# Altium schematic symbol library IDETEC.SchLib: 205 symbols (part 2 of 3)
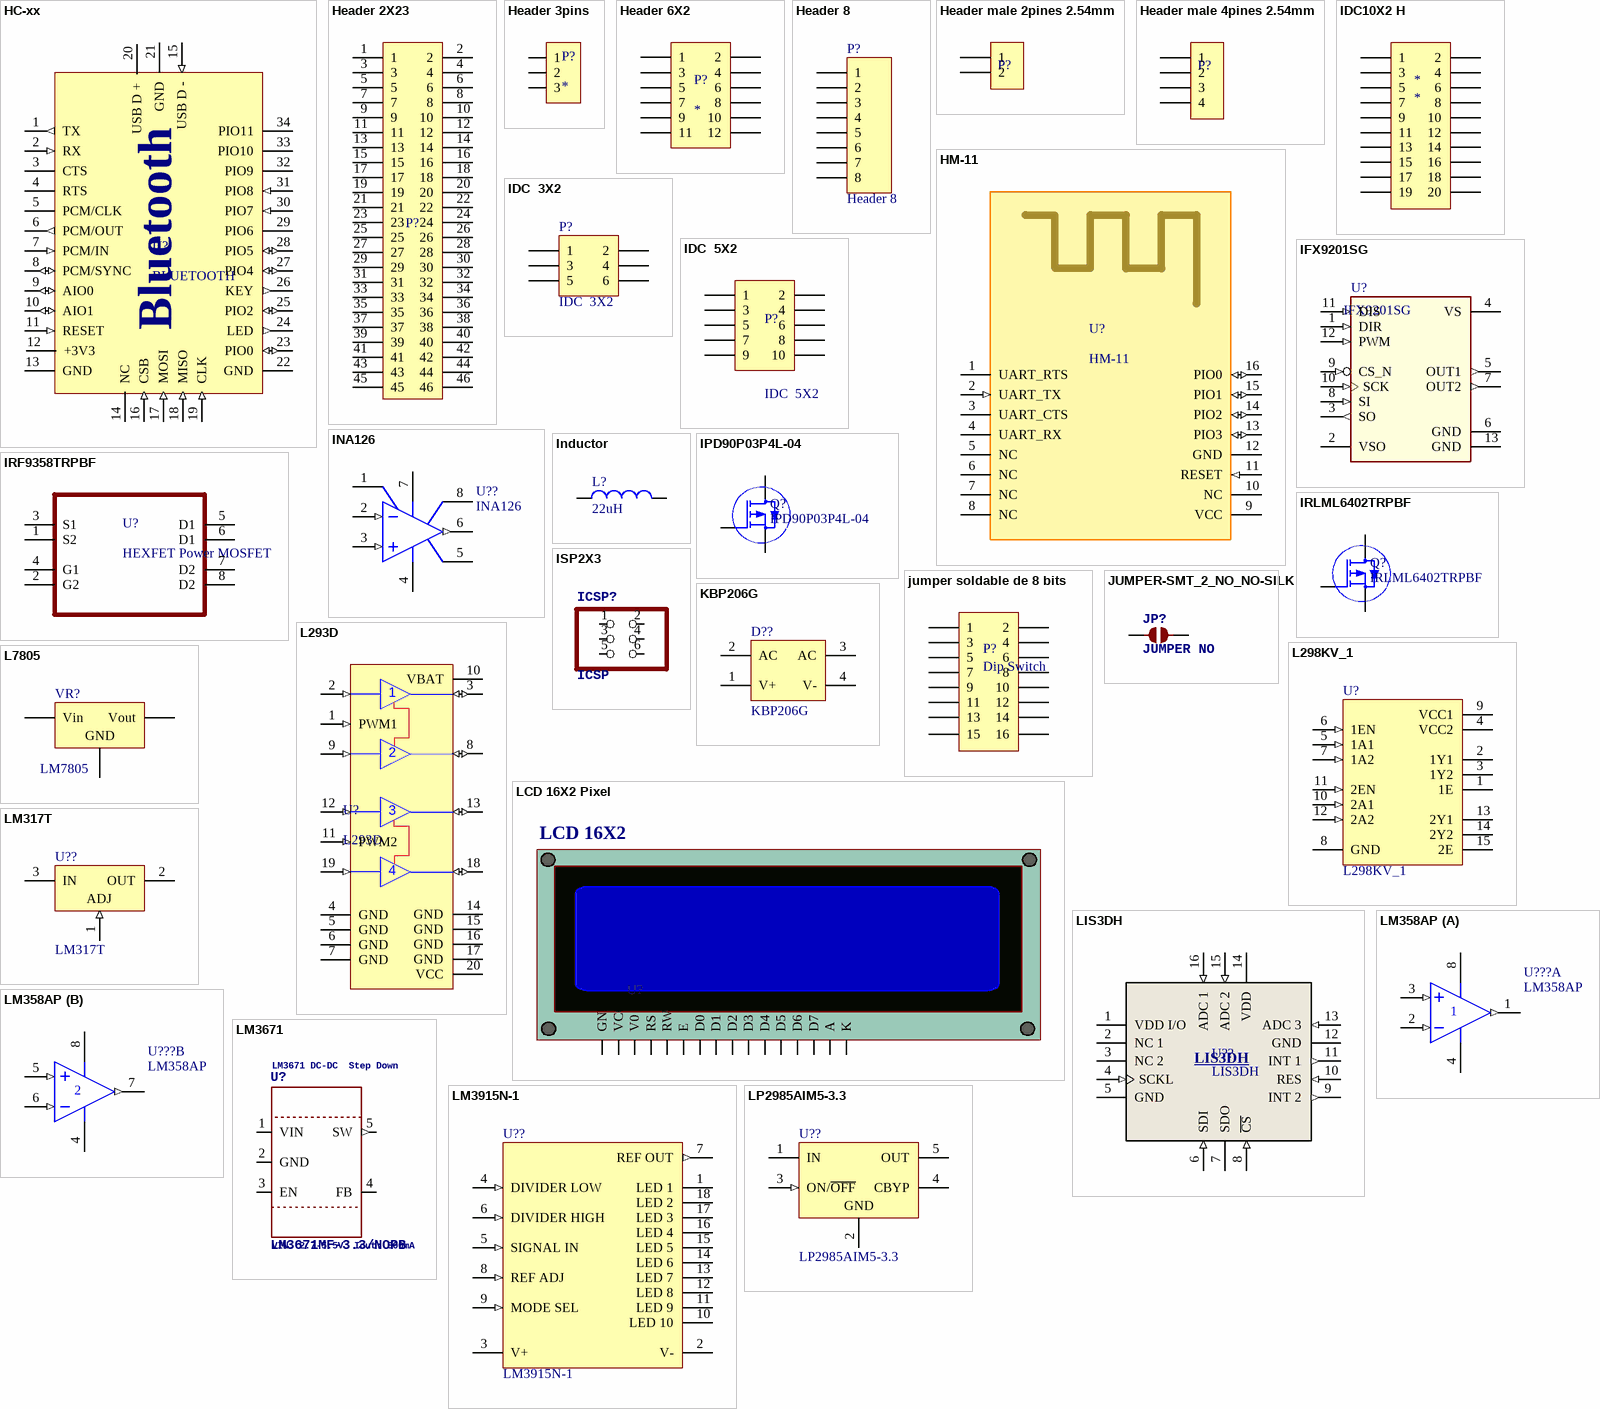
[diagram p8: symbols HC-xx to LP2985AIM5-3.3]

## Inductor
designator L?, comment 22uH
Inductor; Code_IEC: 1005; Value: PM3700-10-RC; Published: 8-Jun-2000; LatestRevisionDate: 29-May-2009; LatestRevisionNote: IPC-7351 Footprint Added.; PackageReference: 0402-A; Publisher: Altium Limited; PackageDescription: Chip Inductor; Code_JEITA: 0402
footprint CDRH5D28NP
simulation model INDUCTOR (Inductor)
signal-integrity model Inductor
pins: 1, 2

## IPD90P03P4L-04
designator Q?
P-Channel MOSFET; Published: 8-Jun-2000; LatestRevisionDate: 17-Jul-2002; LatestRevisionNote: Re-released for DXP Platform.; PackageVersion: 1995/1996; PackageReference: E3; Publisher: Altium Limited
footprint TO252 (D-PAK, 3-Pads, Body 6.2x6.7mm (max), IPC Medium Density)
pins: 1 G, 2 D, 3 S

## IRF9358TRPBF
designator U?, comment HEXFET Power MOSFET
MF: Infineon; MP: IRF9358TRPBF; Price: 0.58 USD; Availability: Good; Package: SOIC-8 Infineon
footprint SOIC127P600X157-8N (SOIC, 8-Leads, Body 5,0x4,0mm (max), Pitch 1,27mm, IPC Medium Density)
pins: 1 S2, 2 G2, 3 S1, 4 G1, 5 D1, 6 D1, 7 D2, 8 D2

## IRLML6402TRPBF
designator Q?
P-Channel MOSFET; Published: 8-Jun-2000; LatestRevisionDate: 17-Jul-2002; LatestRevisionNote: Re-released for DXP Platform.; PackageVersion: 1995/1996; PackageReference: E3; Publisher: Altium Limited
footprint SuperSOT-3 (SOT23, 3-Leads, Body 2,98x2,52mm, Pitch 0,95mm, IPC Medium Density)
pins: 1 S, 2 G, 3 D

## ISP2X3
designator ICSP?, comment ICSP
3x2 M V h 8,5 mm p2,54
footprint 2X03
footprint ISP2X03 (2X03)
pins: 1, 2, 3, 4, 5, 6

## jumper soldable de 8 bits
designator P?, comment Dip Switch
footprint Jumper 8Bits (jumpersoldable)
pins: 1, 2, 3, 4, 5, 6, 7, 8, 9, 10, 11, 12, 13, 14, 15, 16

## JUMPER-SMT_2_NO_NO-SILK
designator JP?, comment JUMPER NO
Normally open jumper    This jumper has two pads in close proximity to each other. Apply solder to close the connection.   Round pads are easier to solder for beginners, but are a lot larger.   SparkFun Product that uses the round pads:  SparkFun EL Sequencer
footprint SMT-JUMPER_2_NO_NO-SILK
pins: 1, 2

## KBP206G
designator D??
Published: 24-Mar-1999; LatestRevisionDate: 17-Jul-2002; LatestRevisionNote: Re-released for DXP Platform.; PackageReference: D-46_6A; Publisher: Altium Limited; Supplier 1: Digi-Key; Supplier Part Number 1: KBP206GGS-ND
simulation model BRIDGE (Spice Subcircuit)
footprint KBP206G (DIODE BRIDGE 2A 600V 1PH KBP)
pins: 1 V+, 2 AC, 3 AC, 4 V-

## L293D
designator U?
Quadruple Half-H Driver
footprint SOIC127P1030X265-20N (SOIC, 20-Leads, Body 12,80x7,50mm, Pitch 1,27mm, IPC Medium Density)
footprint L293DD
pins: 1 PWM1 (in), 2 1A (in), 3 1Y (io), 4 GND (power), 5 GND (power), 6 GND (power), 7 GND (power), 8 2Y (io), 9 2A (in), 10 VBAT (power), 11 PWM2 (in), 12 1A (in), 13 2Y (io), 14 GND (power), 15 GND (power), 16 GND (power), 17 GND (power), 18 1Y (io), 19 2A (in), 20 VCC (power)

## L298KV_1
designator U?
Dual Full-H Driver
footprint KV015 Horizontal (driver de 2Amp 42V horizontal)
footprint KV015 (Driver de 2amp hasta 42V dc)
pins: 1 1E, 2 1Y1 (hiz), 3 1Y2 (hiz), 4 VCC2 (power), 5 1A1 (in), 6 1EN (in), 7 1A2 (in), 8 GND (power), 9 VCC1 (power), 10 2A1 (in), 11 2EN (in), 12 2A2 (in), 13 2Y1 (hiz), 14 2Y2 (hiz), 15 2E

## L7805
designator VR?, comment LM7805
Voltage Regulator; Published: 24-Mar-1999; LatestRevisionDate: 29-May-2009; LatestRevisionNote: IPC-7351 Footprint Added.; PackageReference: D2PAK; Publisher: Altium Limited; PackageDescription: 3-Pin Transistor Outline Package 2.54 mm Pitch, 15.1 mm Lead Span
footprint TO92_DISIPADOR (DISIPADOR)
footprint TO252 (D-PAK, 3-Pads, Body 6.2x6.7mm (max), IPC Medium Density)
pins: 1 Vin, 2 GND, 3 Vout

## LCD 16X2 Pixel
designator U?, comment Lcd Nokia 5110  (value not drawn)
LCD 16X2 Pixel
footprint JHD162A (Display 16x2)
pins: 1 GND, 2 VCC, 3 V0, 4 RS, 5 RW, 6 E, 7 D0, 8 D1, 9 D2, 10 D3, 11 D4, 12 D5, 13 D6, 14 D7, 15 A, 16 K
text: LCD 16X2

## LIS3DH
designator U??
Micropower, 3-Axis, ±2 g/±4 g/±8 g  Digital Output MEMS Accelerometer
footprint LGA-16
pins: 1 VDD I/O, 2 NC 1, 3 NC 2, 4 SCKL (in), 5 GND, 6 SDI (in), 7 SDO, 8 ~{CS} (in), 9 INT 2 (out), 10 RES (in), 11 INT 1 (out), 12 GND, 13 ADC 3 (in), 14 VDD, 15 ADC 2 (in), 16 ADC 1 (in)

## LM317T
designator U??
3-Terminal Adjustable Regulator; Note: Pin 2 is electrically connected to tab; Published: 15-Apr-2002; DatasheetVersion: Feb-1988; PackageVersion: Sep-1995; PackageReference: KC03; Publisher: Altium Limited; PackageDescription: TO, Thru-Hole, Vertical, Heatsink Mounted; 3 In-Line Leads; Pitch 2.54 mm; ComponentLink1Description: Manufacturer Link; ComponentLink1URL: http://www.ti.com/
footprint TO92_DISIPADOR (DISIPADOR)
pins: 1 ADJ (in), 2 OUT (power), 3 IN (power)

## LM358AP
designator U???
Dual Operational Amplifier; Published: 15-Apr-2002; LatestRevisionDate: 04-Mar-2005; LatestRevisionNote: Stylized 3D Model Added.; DatasheetVersion: Aug-1988; PackageVersion: Jun-1999; PackageReference: P008; Publisher: Altium Limited; PackageDescription: DIP; 8 Leads; Row Spacing 7.62 mm; Pitch 2.54 mm; Code_JEDEC: MO-001-AN; ComponentLink1Description: Manufacturer Link; ComponentLink1URL: http://www.ti.com/; ComponentLink2Description: Datasheet; ComponentLink2URL: http://www-s.ti.com/sc/ds/lm358.pdf
footprint DIP-08 (DIP; 8 Leads; Row Spacing 7.62 mm; Pitch 2.54 mm)
footprint DFN8 - LM358 (DFN-8 2X2 mm)
pins on every part: 4 V- (power), 8 V+ (power)
part A pins: 1 OUT (out), 2 IN- (in), 3 IN+ (in)
part B pins: 5 IN+ (in), 6 IN- (in), 7 OUT (out)

## LM3671
designator U?, comment LM3671MF-3.3/NOPB  LM3671DC-DC
StepDown: LM3671 DC-DC / Step Down  VIN:2.7-5.5V
Iout:600mA: VIN: 2.7-5.5V / Iout: 600mA
LM3671 - 600mA DC-DC Step-Down Converter    VIN: 2.7-5.5V  Load Current: 600mA  Switching Frequency: 2MHz  Iq: 16uA; COMPANY: ADAFRUIT INDUSTRIES; DRAWN: KTOWN; REV: A
footprint SOT-23-5
pins: 1 VIN (power), 2 GND (power), 3 EN, 4 FB (oe), 5 SW (out)

## LM3915N-1
designator U??
Dot/Bar Display Driver; Manufacturer: National Semiconductor; CompType: Audio IC; PackageTopMarking: NSUZXYYTT*LM3915N-1; PowerWise: N; Published: 4-Dec-2008; DatasheetVersion: Feb-2001; PackageVersion: revB, May-2006; PackageReference: NA18A; Publisher: Altium Limited; PackageDescription: MDIP, .900 x .250 x .155in, 18 Lead, .100in Pitch; PartNumber: LM3915N-1; RoHS: Y; PinCount: 18; DigiKeyPartNumber: LM3915N-1-ND; Code_JEDEC: MS-001-AC; ComponentLink1Description: LM3915 Datasheet; ComponentLink1URL: http://www.national.com/ds/LM/LM3915.pdf; ComponentLink2Description: LM3915 Web Page; ComponentLink2URL: http://www.national.com/pf/LM/LM3915.html; ComponentLink3Description: NA18A Package Page; ComponentLink3URL: http://www.national.com/packaging/folders/na18a.html
footprint NA18A (DIP, 18-Leads, Row Spacing 7.62mm, Pitch 2.54mm, Body 22.86x6.35mm)
pins: 1 LED 1 (oc), 2 V- (power), 3 V+ (power), 4 DIVIDER LOW (in), 5 SIGNAL IN (in), 6 DIVIDER HIGH (in), 7 REF OUT (out), 8 REF ADJ (in), 9 MODE SEL (in), 10 LED 10 (oc), 11 LED 9 (oc), 12 LED 8 (oc), 13 LED 7 (oc), 14 LED 6 (oc), 15 LED 5 (oc), 16 LED 4 (oc), 17 LED 3 (oc), 18 LED 2 (oc)

## LP2985AIM5-3.3
designator U??
Micropower 150 mA Low-Noise Ultra Low-Dropout Regulator in  SOT-23 and micro SMD Packages; Manufacturer: National Semiconductor; CompType: LDO IC; PackageTopMarking: L0RA*XTT; PowerWise: N; Published: 4-Dec-2008; DatasheetVersion: Jul-2007; PackageVersion: revD, Aug-2008; PackageReference: MF05A; Publisher: Altium Limited; PackageDescription: Molded SOT-23, .115 x .063 x .040 in Body, 5 Lead, .0375 in Pitch; PartNumber: LP2985AIM5-3.3; RoHS: O; PinCount: 5; DigiKeyPartNumber: LP2985AIM5-3.3CT-ND; ComponentLink1Description: LP2985 Datasheet; ComponentLink1URL: http://www.national.com/ds/LP/LP2985.pdf; ComponentLink2Description: LP2985 Web Page; ComponentLink2URL: http://www.national.com/pf/LP/LP2985.html; ComponentLink3Description: MF05A Package Page; ComponentLink3URL: http://www.national.com/packaging/folders/mf05a.html
footprint MF05A_N (SOT23, 5-Leads, Body 2.9x1.6mm, Pitch 0.95mm, Lead Span 2.8mm, IPC Medium Density)
pins: 1 IN (power), 2 GND (power), 3 ON/~{OFF} (in), 4 CBYP, 5 OUT (power)

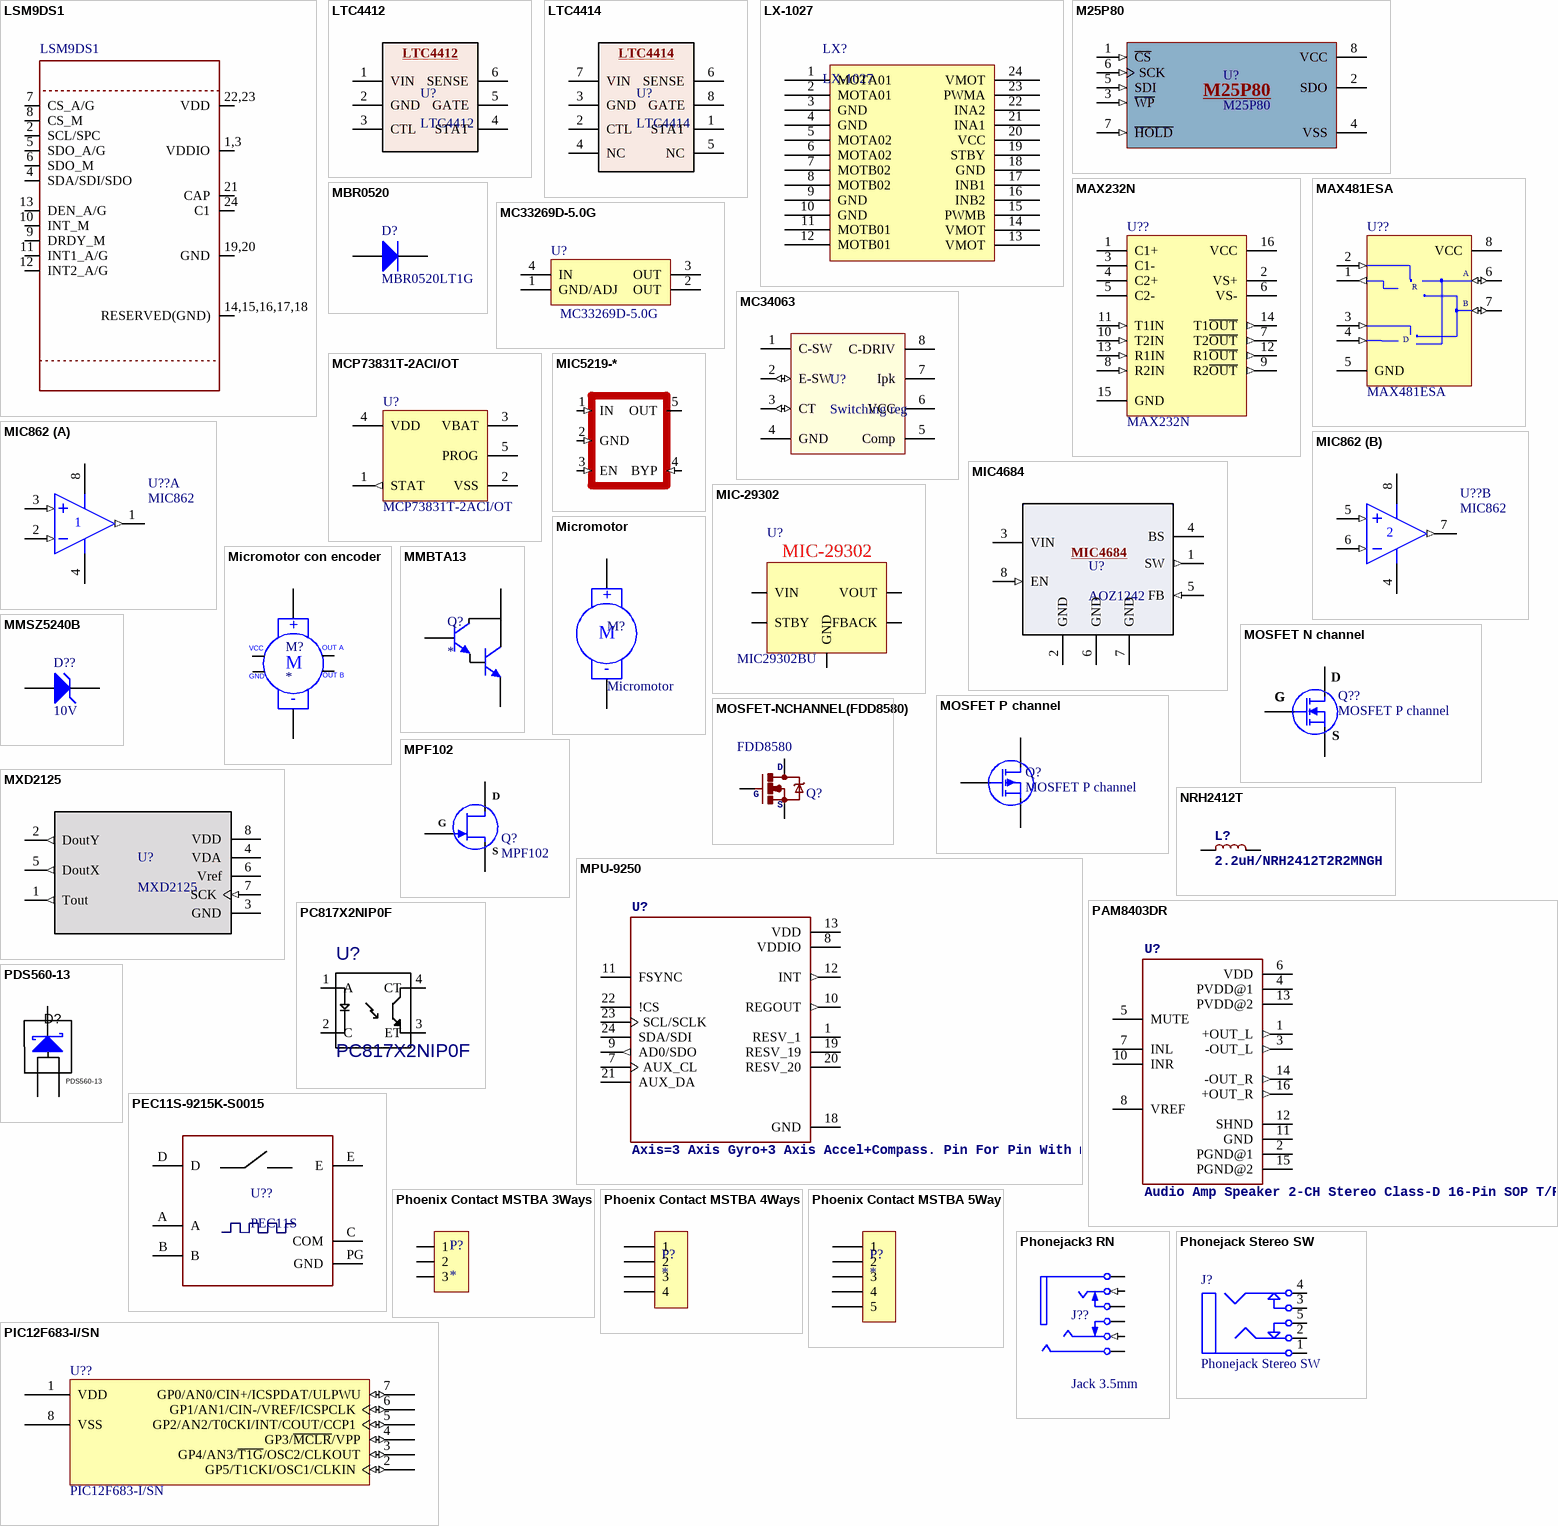
[diagram p4: symbols LSM9DS1 to PIC12F683-I/SN]

## LSM9DS1
designator IC?
>NAME: IC1; LSM9DS1
footprint LGA-24 (LGA24_3.5X3.1MM)
pins: 1,3 VDDIO (power), 2 SCL/SPC, 4 SDA/SDI/SDO, 5 SDO_A/G, 6 SDO_M, 7 CS_A/G, 8 CS_M, 9 DRDY_M, 10 INT_M, 11 INT1_A/G, 12 INT2_A/G, 13 DEN_A/G, 14,15,16,17,18 RESERVED(GND) (power), 19,20 GND (power), 21 CAP, 22,23 VDD (power), 24 C1

## LTC4412
designator U?
Automatic Switchover of Load Between a Battery and a Power Supply
footprint TSOT-23 (SOT23, 6-Leads, Body 2,90x2,80mm, Pitch 0,95mm, IPC Medium Density)
pins: 1 VIN (power), 2 GND (power), 3 CTL (power), 4 STAT (power), 5 GATE (power), 6 SENSE (power)

## LTC4414
designator U?
Automatic Switchover of Load Between a Battery and a Power Supply
footprint MSOP-8 (CFP, 8-Leads, Body 3,00x3,00mm (max), Pitch 0,65mm, IPC Medium Density)
pins: 1 STAT (power), 2 CTL (power), 3 GND (power), 4 NC (power), 5 NC (power), 6 SENSE (power), 7 VIN (power), 8 GATE (power)

## LX-1027
designator LX?
Motor Cont. TB6612
footprint TSOP65P880X160-24N (TSOP, 24-Leads, Body 8,05x6,30mm, Pitch 0,65mm, IPC Medium Density)
pins: 1 MOTA01 (power), 2 MOTA01, 3 GND, 4 GND, 5 MOTA02, 6 MOTA02 (power), 7 MOTB02 (power), 8 MOTB02 (power), 9 GND (power), 10 GND, 11 MOTB01 (power), 12 MOTB01, 13 VMOT (power), 14 VMOT (power), 15 PWMB, 16 INB2, 17 INB1, 18 GND, 19 STBY, 20 VCC, 21 INA1 (power), 22 INA2, 23 PWMA (power), 24 VMOT (power)

## M25P80
designator U?
Serial Flash Embedded  Memory, 8Mb 2.7V to 3.6V
footprint SO8N (SOIC, 8-Leads, Body 4,90x3,90mm, Pitch 1,27mm, IPC Medium Density)
pins: 1 ~{CS} (in), 2 SDO (hiz), 3 ~{WP} (in), 4 VSS (power), 5 SDI (in), 6 SCK (in), 7 ~{HOLD} (in), 8 VCC (power)

## MAX232N
designator U??
Dual EIA-232 Driver/Receiver; Note: Receivers have typical hysteresis of 0.5V; Published: 15-May-2002; LatestRevisionDate: 04-Mar-2005; LatestRevisionNote: Stylized 3D Model Added.; DatasheetVersion: Jun-1989; PackageVersion: Oct-1995; PackageReference: N016; Publisher: Altium Limited; PackageDescription: DIP; 16 Leads; Row Spacing 7.62 mm; Pitch 2.54 mm; Code_JEDEC: MS-001-BB; ComponentLink1Description: Manufacturer Link; ComponentLink1URL: http://www.ti.com/; ComponentLink2Description: Datasheet; ComponentLink2URL: http://www-s.ti.com/sc/ds/max232.pdf
footprint JE16 (DIP, 16-Leads, Row Spacing 7.62mm, Pitch 2.54mm, Body 20.37x6.73mm)
footprint SOIC-16
pins: 1 C1+, 2 VS+ (power), 3 C1-, 4 C2+, 5 C2-, 6 VS- (power), 7 T2~{OUT} (out), 8 R2IN (in), 9 R2~{OUT} (out), 10 T2IN (in), 11 T1IN (in), 12 R1~{OUT} (out), 13 R1IN (in), 14 T1~{OUT} (out), 15 GND (power), 16 VCC (power)

## MAX481ESA
designator U??
Low-Power, Slew-Rate-Limited RS-485/RS-422 Transceiver; Published: 16-Jan-2001; LatestRevisionDate: 13-Apr-2006; LatestRevisionNote: IPC-7351 Footprint Added.; DatasheetVersion: Feb-1996; PackageReference: NSO8; Publisher: Altium Limited; PackageDescription: 8-Pin Small Outline Integrated Circuit 1.27 mm Pitch; Code_JEDEC: MS-012-AA; Code_IPC: SOIC127P600-8; ComponentLink1Description: Manufacturer Link; ComponentLink1URL: http://www.maxim-ic.com/; ComponentLink2Description: Datasheet; ComponentLink2URL: http://pdfserv.maxim-ic.com/en/ds/MAX1487-MAX491.pdf
footprint SOIC-8 (SOIC, 8-Leads, Body 4,90x3,90mm, Pitch 1,27mm, IPC Medium Density)
pins: 1 RO (out), 2 ~{RE} (in), 3 DE (in), 4 DI (in), 5 GND (power), 6 A (io), 7 B (io), 8 VCC (power)
text: R; D

## MBR0520
designator D?, comment MBR0520LT1G
1.0 Ampere General Purpose Rectifier; Published: 8-Jun-2000; LatestRevisionDate: 17-Jul-2002; LatestRevisionNote: Re-released for DXP Platform.; DatasheetDocument: 1998; PackageDocument: Aug-1999; PackageReference: DO-41; Publisher: Altium Limited; Code_JEDEC: DO-204-AL; ComponentLink1Description: Manufacturer Link; ComponentLink1URL: http://www.fairchildsemi.com/; ComponentLink2Description: Pinout Specification; ComponentLink2URL: http://www.fairchildsemi.com/ds/1N%2F1N4001.pdf
footprint sod123 (SOD123)
simulation model 1N4004 (DIODE)
signal-integrity model 1N4004
pins: 1 A, 2 K

## MC33269D-5.0G
designator U?
Low Dropout Positive Fixed Voltage Regulator; Note: Pin 2 is electrically connected to Pin 4 (TAB); Published: 15-Apr-2002; DatasheetVersion: Apr-2000; PackageVersion: Nov-1999; PackageReference: 318E-04; Publisher: Altium Limited; ComponentLink1Description: Manufacturer Link; ComponentLink1URL: http://www.onsemi.com/site/products/taxonomy/0,4438,503,00.html; ComponentLink2Description: Datasheet; ComponentLink2URL: http://www.onsemi.com/pub/Collateral/MC33269-D.PDF
footprint 751-05 (SOIC, 8-Leads, Body 4.9x3.9mm, Pitch 1.27mm, IPC Medium Density); pin to pad 2>2+7 3>3+6 6>3 7>2
pins: 1 GND/ADJ (power), 2 OUT (power), 3 OUT (power), 4 IN (power), 5 NC (power) hidden, 8 NC (power) hidden

## MC34063
designator U?, comment Switching reg
USB Mini
footprint MC34063 (SOIC, 8-Leads, Body 4,90x3,90mm, Pitch 1,27mm, IPC Medium Density)
footprint SOIC-8 (SOIC, 8-Leads, Body 4,90x3,90mm, Pitch 1,27mm, IPC Medium Density)
pins: 1 C-SW (power), 2 E-SW (io), 3 CT (io), 4 GND, 5 Comp, 6 VCC, 7 Ipk, 8 C-DRIV

## MCP73831T-2ACI/OT
designator U?
Miniature Single-Cell, Fully Integrated Li-Ion, Li-Polymer Charge Management Controller, 4.2V, 5-Pin SOT-23, Industrial Temperature, Tape and Reel; Published: 29-Jan-2009; DatasheetVersion: revD, Apr-2008; PackageVersion: revAW, Oct-2008; PackageReference: SOT-23-OT5; Publisher: Altium Limited; PackageDescription: 5-Lead Plastic Small Outline Transistor (OT) [SOT-23]; Code_IPC: SOT23-5; ComponentLink1Description: Manufacturer Link; ComponentLink1URL: http://www.microchip.com; ComponentLink2Description: Datasheet; ComponentLink2URL: http://ww1.microchip.com/downloads/en/DeviceDoc/21984d.pdf; ComponentLink3Description: Packaging Specification; ComponentLink3URL: http://ww1.microchip.com/downloads/en/PackagingSpec/00049AW.pdf
footprint MF05A_N (SOT23, 5-Leads, Body 2.9x1.6mm, Pitch 0.95mm, Lead Span 2.8mm, IPC Medium Density)
pins: 1 STAT (out), 2 VSS (power), 3 VBAT (power), 4 VDD (power), 5 PROG

## MIC862
designator U??
Dual Operational Amplifier; Supplier 1: Digi-Key; Supplier Part Number 1: 576-2933-2-ND
footprint SOT-23-8
pins on every part: 4 V- (power), 8 V+ (power)
part A pins: 1 OUT (out), 2 IN- (in), 3 IN+ (in)
part B pins: 5 IN+ (in), 6 IN- (in), 7 OUT (out)

## MIC4684
designator U?, comment AOZ1242
IC REG BUCK ADJ 3A; ComponentLink1URL: http://www.aosmd.com/pdfs/datasheet/aoz1021ai.pdf; ComponentLink2URL: http://www.digikey.com/product-detail/es/AOZ1021AI/785-1155-1-ND/1856090
footprint SO-8L (SOIC, 8-Leads, Body 4,90x3,90mm, Pitch 1,27mm, IPC Medium Density)
pins: 1 SW (out), 2 GND, 3 VIN (power), 4 BS, 5 FB (in), 6 GND, 7 GND, 8 EN (in)

## MIC5219-*
designator U?  (value not drawn)
MF: Micrel; Package: None; Price: None; Availability: Unavailable; MP: MIC5219; Value: *
footprint SOT-23-5
pins: 1 IN (in), 2 GND (in), 3 EN (in), 4 BYP (in), 5 OUT

## MIC-29302
designator U?, comment MIC29302BU
SIM29302: SIM29302
footprint MIC29302BU
footprint MIC29302AWD
pins: 1 STBY, 2 VIN, 3 GND, 4 VOUT, 5 FBACK

## Micromotor
designator M?
Header, 2-Pin; LatestRevisionDate: 17-Jul-2002; LatestRevisionNote: Re-released for DXP Platform.; Publisher: Altium Limited
footprint Micromotor (gearmotor is a miniature (0.94" x 0.39" x 0.47"), low-current brushed DC motor with 30:1)
footprint Micromotor Metal (Mcromotor con soporte adelante)
footprint HEADER MICROMOTOR
footprint Conector Vibrator Motor (Conector de vibrador)
footprint Motor
pins: 1 +, 2 -
text: M

## Micromotor con encoder
designator M?
Micro motor
footprint Micro Motro gear Motor (micromotor con encoder)
pins: 1 GND, 2 GND, 3 VCC, 4 VCC, 5 -, 6 +
text: OUT A; M; OUT B

## MMBTA13
designator Q?
Transistores Darlington NPN Transistor Darlington
footprint SOT-23-TT3_N (SOT23, 3-Leads, Body 2.9x1.3mm, Pitch 0.95mm, Lead Span 2.4mm, IPC Medium Density)
pins: 1 B, 2 E, 3 C

## MMSZ5240B
designator D??, comment 10V
Zener Diode; Manufacturer: Taiwan Semiconductor; Manufacturer Part Number: MMSZ5240B; Supplier 1: Mouser; RoHS: RoHS Compliant; Category: Zener Diodes; Stock 1: 0; Pricing 1: 1=0.100, 10=0.062, 100=0.042, 500=0.035, 1000=0.026, 3000=0.023, 9000=0.020, 24000=0.019, 45000=0.018 (USD); Package / Case: SOD-123F-2; Packaging: Cut Tape; Series: MMSZ52; Brand: Taiwan Semiconductor; Standard Pack Qty: 3000; RoHS - Mouser: Y; Minimum Order Quantity: 1; Reeling: True; Supplier Part Number 1: 821-MMSZ5240B
footprint sod123 (SOD123)
pins: 1 A, 2 K

## MOSFET N channel
designator Q??, comment MOSFET P channel
N-Channel MOSFET; Published: 8-Jun-2000; LatestRevisionDate: 17-Jul-2002; LatestRevisionNote: Re-released for DXP Platform.; PackageVersion: 1995/1996; PackageReference: E3; Publisher: Altium Limited
footprint SuperSOT-3 (SOT23, 3-Leads, Body 2,98x2,52mm, Pitch 0,95mm, IPC Medium Density)
pins: 1 S, 2 G, 3 D

## MOSFET P channel
designator Q?
N-Channel MOSFET; Published: 8-Jun-2000; LatestRevisionDate: 17-Jul-2002; LatestRevisionNote: Re-released for DXP Platform.; PackageVersion: 1995/1996; PackageReference: E3; Publisher: Altium Limited
footprint SuperSOT-3 (SOT23, 3-Leads, Body 2,98x2,52mm, Pitch 0,95mm, IPC Medium Density)
pins: 1 S, 2 G, 3 D

## MOSFET-NCHANNEL(FDD8580)
designator Q?, comment FDD8580
D: D; S: S; G: G
footprint MPF102 (TO, Flat Index; 3 In-Line, Axial Leads; Body Dia. 4.5mm; Leads 0.51 x 0.48 mm (max))
pins: 1 S, 2 G, 3 D

## MPF102
designator Q?
Published: 8-Jun-2000; LatestRevisionDate: 17-Jul-2002; LatestRevisionNote: Re-released for DXP Platform.; PackageVersion: 1995/1996; PackageReference: E3; Publisher: Altium Limited
footprint MPF102 (TO, Flat Index; 3 In-Line, Axial Leads; Body Dia. 4.5mm; Leads 0.51 x 0.48 mm (max))
pins: 1 D, 2 S, 3 G

## MPU-9250
designator U?, comment Axis=3 Axis Gyro+3 Axis Accel+Compass. Pin For Pin With m
MF: TDK InvenSense; MP: MPU-9250; Package: TFQFN-24 TDK InvenSense; Price: None; Availability: Unavailable
footprint QFN40P300X300X105-24N
pins: 1 RESV_1, 7 AUX_CL, 8 VDDIO (power), 9 AD0/SDO (out), 10 REGOUT (out), 11 FSYNC, 12 INT (out), 13 VDD (power), 18 GND (power), 19 RESV_19, 20 RESV_20, 21 AUX_DA, 22 !CS, 23 SCL/SCLK, 24 SDA/SDI

## MXD2125
designator U?
Dual axis accelerometer fabricated on a monolithic CMOS IC
footprint MXD2125M (Dual Axis Accelerometer with  Digital Outputs)
pins: 1 Tout (out), 2 DoutY (out), 3 GND (power), 4 VDA (power), 5 DoutX (out), 6 Vref, 7 SCK (in), 8 VDD (power)

## NRH2412T
designator L?, comment 2.2uH/NRH2412T2R2MNGH
Inductors   0603: 10nH Ceramic Inductor - microwire antenna/RF (Digikey: 712-1434-2-ND)       0805: 560nH Ceramic Inductor - RF (Digikey: 553-1047-1-ND)  270nH Ceramic Inductor - Q = 40@250MHz, +-5%, 1 Ohm DC Resistance (Digikey: 535-10506-2-ND)       1007 (2518 Metric) SMT: 10µH 10% 250mOhm 820mA 1007 Inductor (Digikey: 587-2189-1-ND)  22µH 10% 500mOhm 580mA 1007 Inductor (Digikey: 587-2190-1-ND)  47µH 10% 950mOhm 420mA 1007 Inductor (Digikey: 587-2191-1-ND)  47µH 5% 100mOhm 1A 1008 Inductor (Digikey: 732-1816-1-ND)       5.0x5.0mm (Taiyo Yuden NR5040 Series) 6.8µH 20% 2.3A 64mOhm Inductor (Digikey: 587-2374-2-ND)       5.0x5.0mm (TDK VLC5045 Series) 4.7µH 20% 3.3A 34mOhm Inductor (Digikey: 445-6526-1-ND)  6.8µH 20% 2.7A 46mOhm Inductor (Digikey: 445-6527-1-ND)       6.0x6.0mm (TDK VLC6045 Series) 4.7µH 20% 3.8A 27mOhm Inductor (Digikey: 445-6538-2-ND)  6.8µH 20% 3A 41mOhm Inductor (Digikey: 445-6540-1-ND)  6.2µH 30% 2.2A 45mOhm Inductor (Digikey: SRR5028-6R2YCT-ND) - Not TDK VLC6045 but footprint should match       6.0x6.0mm (TDK SLF6045 Series) 6.8uH 30% 2A 33mOhm Inductor (Digikey: 445-4572-1-ND, Mouser: 810-SLF645T6R8N2R0PF)       6.0x6.0mm (Sumida CDRH5D28 Series) 6.2uH 30% 1.8A 45mOhm Inductor (Digikey: 308-1542-1-ND)       Taiyo Yuden NR3015T2R2M - 2.2uH 20% 1.5A (Digikey: 587-1648-2-ND, Mouser: 963-NR3015T2R2M) - Used with TI TPS62172   CoilCraft RFID Transponder Coil - MA5532-AE (For use with AS3935 Lightning Sensor)   Taiyo Yuden NRH2412T2R2MNGH - 2.2uH 20% 1AA (Digikey: 587-3443-1-ND) - Used with TI LM3671   Vishay IHLP  1.0uH Molded Inductor - 24mOhm DCR, 5A, +/-20%, -55°C-125°C (Digikey: 541-1319-1-ND); COMPANY: ADAFRUIT INDUSTRIES; DRAWN: KTOWN; REV: A
footprint INDUCTOR_TAIYOYUDEN_NRH2412T
pins: 1, 2

## PAM8403DR
designator U?, comment Audio Amp Speaker 2-CH Stereo Class-D 16-Pin SOP T/R
MP: PAM8403DR; MF: Diodes Inc.; Price: Average Price: / $0.44 USD; Availability: Good; Package: None
footprint SOIC-16
pins: 1 +OUT_L (out), 2 PGND@1 (power), 3 -OUT_L (out), 4 PVDD@1 (power), 5 MUTE, 6 VDD (power), 7 INL, 8 VREF, 10 INR, 11 GND (power), 12 SHND (power), 13 PVDD@2 (power), 14 -OUT_R (out), 15 PGND@2 (power), 16 +OUT_R (out)

## PC817X2NIP0F
designator U?
PC817 Series 1 Channel 80 V 5000 Vrms General Purpose Photocoupler - DIP-4; MF: Sharp Microelectronics; MP: PC817X2NIP0F; Price: 0.27 USD; Package: PDIP-4 Sharp Microelectronics; Availability: Good; Value: *
footprint DIP4
footprint SOP-4
pins: 1 A, 2 C, 3 ET, 4 CT

## PDS560-13
designator D?
Diode, Schottky, 60 V, 5 A, SMC; Manufacturer: Diodes Inc.; U/M: EA; Vf_V: 0.7; Value2: 0.7V; Io_A: 5; Vr_V: 60; TJmax_C: 125; RJC_CperW: 10; AEC Category: Q101; SizeAreaWB_mm2: 83.2686; SizeArea_mm2: 50.5686; SizeX_mm: 8.13; SizeY_mm: 6.22; SizeZ_mm: 2.6; CompType: Diode; SymbolVersion: 2008-12-08; PartNumber: PDS560-13; PackageReference: SMC; MountType: SMT; Type: Schottky; RoHS: Y; Published: 2008-06-26; Publisher: Texas Instruments; LatestRevisionDate: 2016-10-18; ComponentLink1Description: Datasheet link; ComponentLink1URL: http://www.diodes.com/datasheets/ds13012.pdf; Supplier 1: Digi-Key; Supplier Part Number 1: PDS560-13; Supplier 2: Mouser; Supplier Part Number 2: 621-B560C-F; Supplier 3: Farnell; Supplier Part Number 3: 1858602; AEC Qualified: ?; Value1: PDS560-13
footprint DIO_SBR10U200P5-13
pins: 1 K, 2 A, 3 A

## PEC11S-9215K-S0015
designator U??, comment PEC11S
footprint PEC11S (Codificadores 12MM SMD INCREMENTAL ENCODER)
pins: A, B, C COM, D, E, PG GND

## Phoenix Contact MSTBA 3Ways
designator P?
header 3
footprint Phoenix Contact MSTBA (Phoenix Contact MSTBA Series, 5.08 mm Pitch 3 Way 1 Row Right Angle PCB Header, Solder Termination, 12 A)
pins: 1, 2, 3

## Phoenix Contact MSTBA 4Ways
designator P?
footprint Phoenix Contact MSTBA - duplicate (Phoenix Contact, Bornera pitch 5.08mm, LxWxH = 15.24x12x8.6mm)
pins: 1, 2, 3, 4

## Phoenix Contact MSTBA 5Way
designator P?
footprint Phoenix Contact MSTBA - duplicate - duplicate (Phoenix Contact MSTBA Series, 5.08 mm Pitch 5 Way 1 Row Right Angle PCB Header, Solder Termination, 12 A)
pins: 1, 2, 3, 4, 5

## Phonejack3 RN
designator J??, comment Jack 3.5mm
Jack Socket, 1/4" [6.5mm], Vertical, 6-Conductor; PackageDocument: 2003; PCB_Layout: Complies with manufacturer's recommendation.; DrillAndSlotSize: Corresponds to nominal value.; Published: 15-Jul-2004; DatasheetDocument: 2003; PackageReference: S1VS_SBS; Publisher: Altium Limited; ComponentLink1Description: Manufacturer Link; ComponentLink1URL: http://www.cliffuk.co.uk/
footprint Jack 3.5mm Stereo (PJ-342)
pins: 1 S1 "Ring Normal (Break Contact)", 2 R (in) "Ring/Right Channel/(-)", 3 L (in) "Ring Normal (Break Contact)", 4 S2 (power) "Sleeve (Ground)", 5 RN "Ring Normal (Break Contact)", 6 LN "Ring Normal (Break Contact)"

## Phonejack Stereo SW
designator J?
3-Conductor Jack with 2 break contacts (normals) and 2 auxiliary make contacts; Published: 5-Jan-2004; LatestRevisionDate: 17-Dec-2003; LatestRevisionNote: PCB Footprint replaced.; DatasheetDocument: 07-Mar-2000; Publisher: Altium Limited; ComponentLink1Description: Manufacturer Link; ComponentLink1URL: http://domino.kycon.com/internet/Products.html
footprint 35RAPC4BH3
pins: 1, 2, 3, 4, 5

## PIC12F683-I/SN
designator U??
Flash-Based 8-Bit CMOS Microcontroller with nanoWatt Technology, 2K (x14-Bit words) Program Memory, 384 Bytes Data Memory, 8-Pin SOIC, Industrial Temperature; Published: 29-Jan-2009; DatasheetVersion: revD, Feb-2007; PackageVersion: revAW, Oct-2008; PackageReference: SOIC-SN8; Publisher: Altium Limited; PackageDescription: 8-Lead Plastic Small Outline (SN) - Narrow, 3.90mm Body [SOIC]; Code_JEDEC: MS-012; Code_IPC: SOIC127P600-8; ComponentLink1Description: Manufacturer Link; ComponentLink1URL: http://www.microchip.com; ComponentLink2Description: Datasheet; ComponentLink2URL: http://ww1.microchip.com/downloads/en/DeviceDoc/41211D_.pdf; ComponentLink3Description: Packaging Specification; ComponentLink3URL: http://ww1.microchip.com/downloads/en/PackagingSpec/00049AW.pdf
footprint SOIC127P600X157-8N (SOIC, 8-Leads, Body 5,0x4,0mm (max), Pitch 1,27mm, IPC Medium Density)
pins: 1 VDD (power), 2 GP5/T1CKI/OSC1/CLKIN (io), 3 GP4/AN3/~{T1G}/OSC2/CLKOUT (io), 4 GP3/~{MCLR}/VPP (io), 5 GP2/AN2/T0CKI/INT/COUT/CCP1 (io), 6 GP1/AN1/CIN-/VREF/ICSPCLK (io), 7 GP0/AN0/CIN+/ICSPDAT/ULPWU (io), 8 VSS (power)

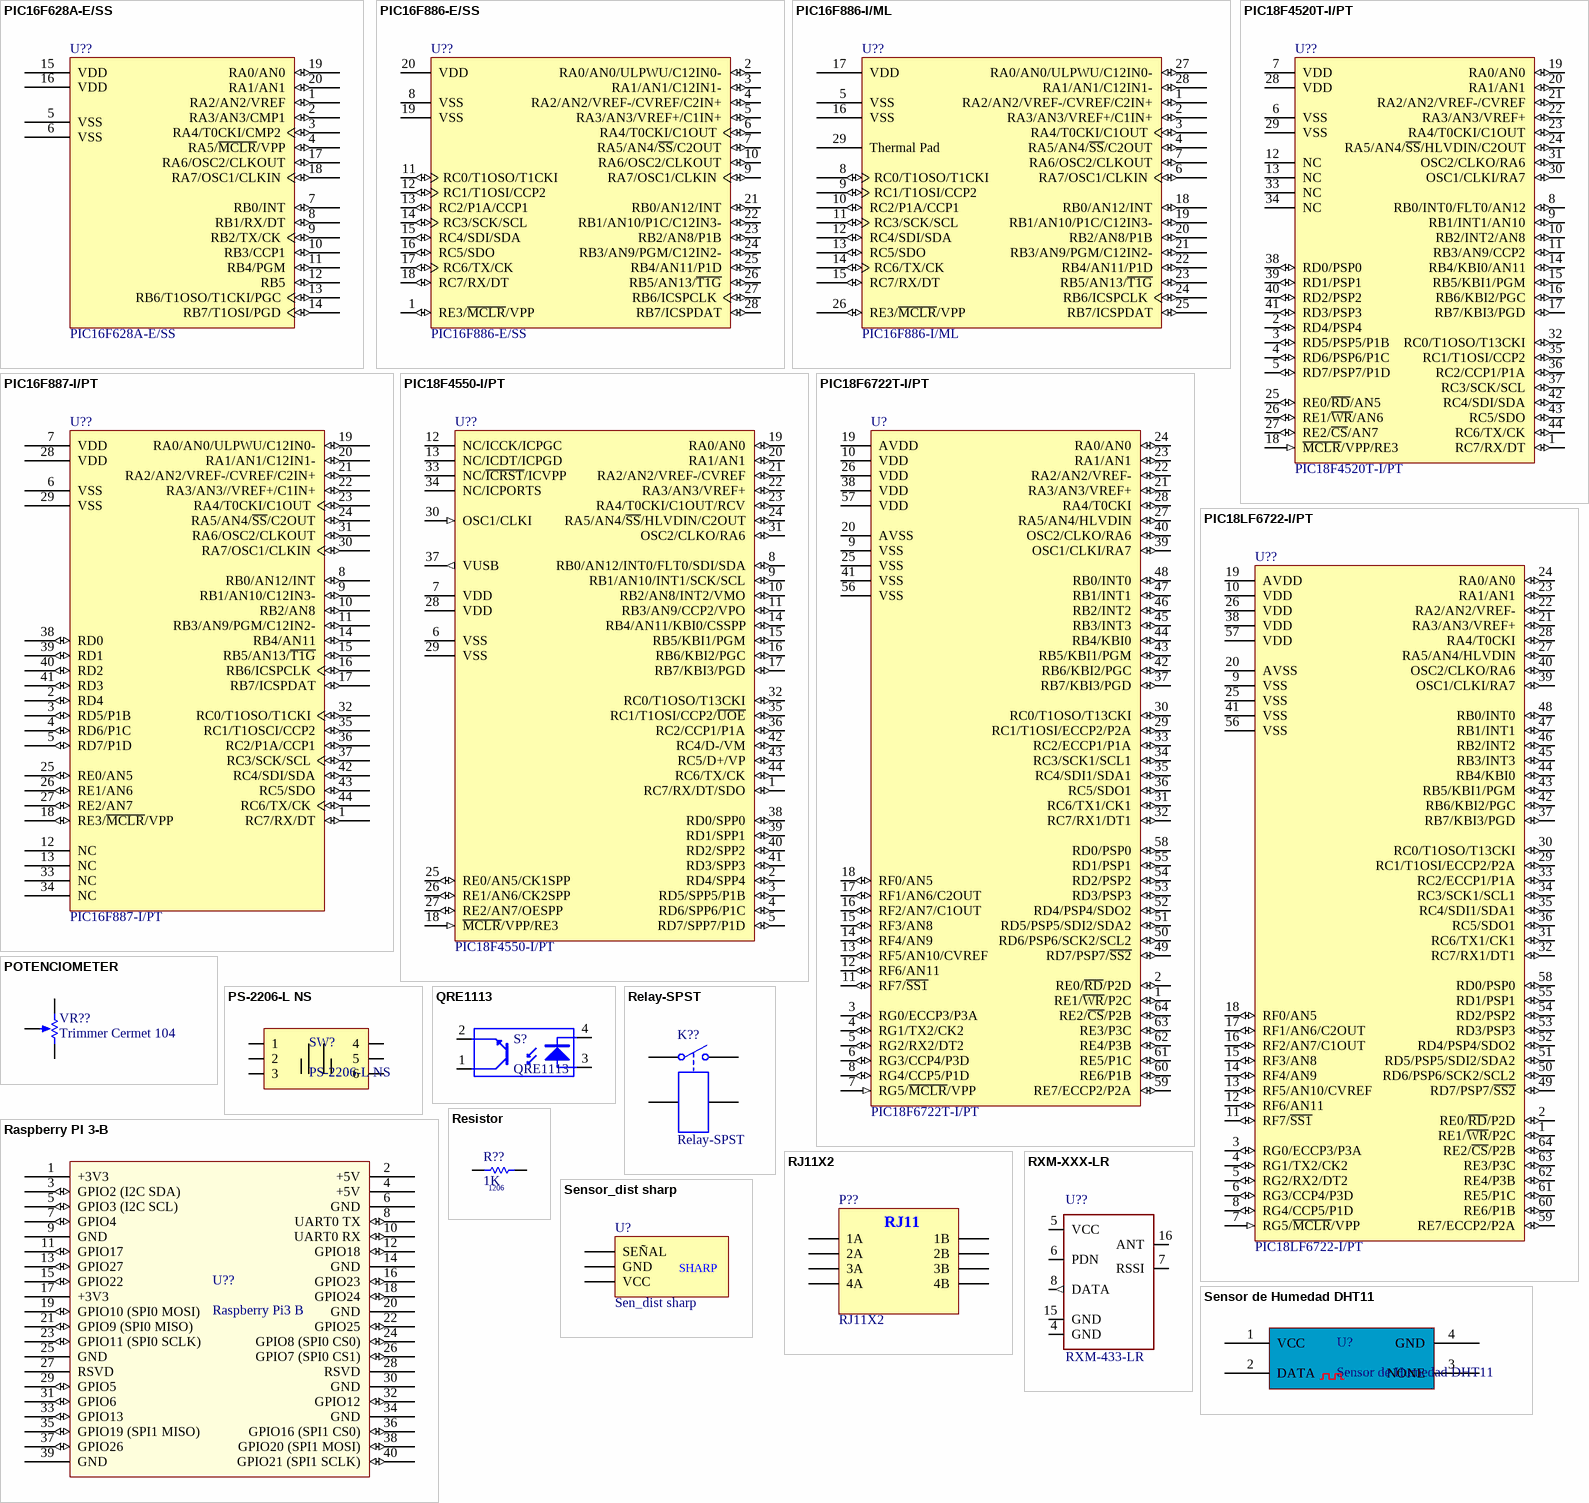
[diagram p5: symbols PIC16F628A-E/SS to Sensor_dist sharp]

## PIC16F628A-E/SS
designator U??
FLASH-Based 8-Bit CMOS Microcontroller with nanoWatt Technology, 2K (x14-Bit words) FLASH, 224 Bytes SRAM, 20-Pin SSOP, 3.0 to 5.5V Supply Range, Extended Temperature; Published: 11-Oct-2004; LatestRevisionDate: 29-Jan-2009; LatestRevisionNote: Sch. layout revised. 3D Model Removed.; DatasheetVersion: revF, Mar-2007; PackageVersion: revAW, Oct-2008; PackageReference: SSOP-SS20; Publisher: Altium Limited; PackageDescription: 20-Lead Plastic Shrink Small Outline (SS) - 5.3mm Body [SSOP]; Code_JEDEC: MO-150; Code_IPC: SOP65P780-20; ComponentLink1Description: Manufacturer Link; ComponentLink1URL: http://www.microchip.com; ComponentLink2Description: Datasheet; ComponentLink2URL: http://ww1.microchip.com/downloads/en/DeviceDoc/40044b.pdf; ComponentLink3Description: Packaging Specification; ComponentLink3URL: http://ww1.microchip.com/downloads/en/PackagingSpec/00049AW.pdf
footprint SSOP-SS20_N (SOP, 20-Leads, Body 7.2x5.2mm, Pitch 0.65mm, IPC Medium Density)
pins: 1 RA2/AN2/VREF (io), 2 RA3/AN3/CMP1 (io), 3 RA4/T0CKI/CMP2 (io), 4 RA5/~{MCLR}/VPP (io), 5 VSS (power), 6 VSS (power), 7 RB0/INT (io), 8 RB1/RX/DT (io), 9 RB2/TX/CK (io), 10 RB3/CCP1 (io), 11 RB4/PGM (io), 12 RB5 (io), 13 RB6/T1OSO/T1CKI/PGC (io), 14 RB7/T1OSI/PGD (io), 15 VDD (power), 16 VDD (power), 17 RA6/OSC2/CLKOUT (io), 18 RA7/OSC1/CLKIN (io), 19 RA0/AN0 (io), 20 RA1/AN1 (io)

## PIC16F886-E/SS
designator U??
Flash-Based, 8-Bit CMOS Microcontroller with nanoWatt Technology, 8K (x14-Bit words) Program Memory, 624 Bytes Data Memory, 24 I/O pins, 28-Pin SSOP, Standard VDD Range, Extended Temperature; Published: 29-Jan-2009; LatestRevisionDate: 02-Dec-2009; LatestRevisionNote: Updated datasheet to version revF, Apr-2009.; DatasheetVersion: revF, Apr-2009; PackageVersion: revBB, Aug-2009; PackageReference: SSOP-SS28; Publisher: Altium Limited; PackageDescription: 28-Lead Plastic Shrink Small Outline (SS) - 5.3mm Body [SSOP]; Supplier 1: Digi-Key; Supplier Part Number 1: PIC16F886-E/SS-ND; Code_JEDEC: MS-150; Code_IPC: SOP65P780-28; ComponentLink1Description: Datasheet; ComponentLink1URL: http://ww1.microchip.com/downloads/en/DeviceDoc/41291F.pdf; ComponentLink2Description: Packaging Specification; ComponentLink2URL: http://www.microchip.com/stellent/groups/techpub_sg/documents/packagingspec/en012702.pdf; ComponentLink3Description: Microchip.com Home; ComponentLink3URL: http://www.microchip.com/
footprint PIC16F886 SSOP-SS28_N (SOP, 28-Leads, Body 10.2x5.2mm, Pitch 0.65mm, IPC Medium Density)
pins: 1 RE3/~{MCLR}/VPP (io), 2 RA0/AN0/ULPWU/C12IN0- (io), 3 RA1/AN1/C12IN1- (io), 4 RA2/AN2/VREF-/CVREF/C2IN+ (io), 5 RA3/AN3/VREF+/C1IN+ (io), 6 RA4/T0CKI/C1OUT (io), 7 RA5/AN4/~{SS}/C2OUT (io), 8 VSS (power), 9 RA7/OSC1/CLKIN (io), 10 RA6/OSC2/CLKOUT (io), 11 RC0/T1OSO/T1CKI (io), 12 RC1/T1OSI/CCP2 (io), 13 RC2/P1A/CCP1 (io), 14 RC3/SCK/SCL (io), 15 RC4/SDI/SDA (io), 16 RC5/SDO (io), 17 RC6/TX/CK (io), 18 RC7/RX/DT (io), 19 VSS (power), 20 VDD (power), 21 RB0/AN12/INT (io), 22 RB1/AN10/P1C/C12IN3- (io), 23 RB2/AN8/P1B (io), 24 RB3/AN9/PGM/C12IN2- (io), 25 RB4/AN11/P1D (io), 26 RB5/AN13/~{T1G} (io), 27 RB6/ICSPCLK (io), 28 RB7/ICSPDAT (io)

## PIC16F886-I/ML
designator U??
Flash-Based, 8-Bit CMOS Microcontroller with nanoWatt Technology, 8K (x14-Bit words) Program Memory, 624 Bytes Data Memory, 24 I/O pins, 28-Pin QFN, Standard VDD Range, Industrial Temperature; Published: 29-Jan-2009; DatasheetVersion: revE, Jan-2008; PackageVersion: revAW, Oct-2008; PackageReference: QFN-ML28; Publisher: Altium Limited; PackageDescription: 28-Lead Plastic Quad Flat, No Lead Package (ML) - 6x6 mm Body [QFN] with 0.55 mm Contact Length; Code_JEDEC: MO-220; Code_IPC: QFN65P600X600-28V; ComponentLink1Description: Manufacturer Link; ComponentLink1URL: http://www.microchip.com; ComponentLink2Description: Datasheet; ComponentLink2URL: http://ww1.microchip.com/downloads/en/DeviceDoc/41291E.pdf; ComponentLink3Description: Packaging Specification; ComponentLink3URL: http://ww1.microchip.com/downloads/en/PackagingSpec/00049AW.pdf
footprint QFN65P600X600X80_HS-29N (QFN, 28-Leads, Body 6,00x6,00mm, Pitch 0,65mm, Thermal Pad 4,25x4,25mm, IPC Medium Density)
pins: 1 RA2/AN2/VREF-/CVREF/C2IN+ (io), 2 RA3/AN3/VREF+/C1IN+ (io), 3 RA4/T0CKI/C1OUT (io), 4 RA5/AN4/~{SS}/C2OUT (io), 5 VSS (power), 6 RA7/OSC1/CLKIN (io), 7 RA6/OSC2/CLKOUT (io), 8 RC0/T1OSO/T1CKI (io), 9 RC1/T1OSI/CCP2 (io), 10 RC2/P1A/CCP1 (io), 11 RC3/SCK/SCL (io), 12 RC4/SDI/SDA (io), 13 RC5/SDO (io), 14 RC6/TX/CK (io), 15 RC7/RX/DT (io), 16 VSS (power), 17 VDD (power), 18 RB0/AN12/INT (io), 19 RB1/AN10/P1C/C12IN3- (io), 20 RB2/AN8/P1B (io), 21 RB3/AN9/PGM/C12IN2- (io), 22 RB4/AN11/P1D (io), 23 RB5/AN13/~{T1G} (io), 24 RB6/ICSPCLK (io), 25 RB7/ICSPDAT (io), 26 RE3/~{MCLR}/VPP (io), 27 RA0/AN0/ULPWU/C12IN0- (io), 28 RA1/AN1/C12IN1- (io), 29 Thermal Pad

## PIC16F887-I/PT
designator U??
Flash-Based, 8-Bit CMOS Microcontroller with nanoWatt Technology, 8K (x14-Bit words) Program Memory, 624 Bytes Data Memory, 35 I/O pins, 44-Pin TQFP, Standard VDD Range, Industrial Temperature; Published: 29-Jan-2009; DatasheetVersion: revE, Jan-2008; PackageVersion: revAW, Oct-2008; PackageReference: TQFP-PT44; Publisher: Altium Limited; PackageDescription: 44-Lead Plastic Thin Quad Flatpack (PT) - 10x10x1mm Body, 2.00mm [TQFP]; Code_JEDEC: MS-026; ComponentLink1Description: Manufacturer Link; ComponentLink1URL: http://www.microchip.com; ComponentLink2Description: Datasheet; ComponentLink2URL: http://ww1.microchip.com/downloads/en/DeviceDoc/41291E.pdf; ComponentLink3Description: Packaging Specification; ComponentLink3URL: http://ww1.microchip.com/downloads/en/PackagingSpec/00049AW.pdf
footprint TQFP-PT44_M (Thin QFP, 44-Leads, Body 10x10mm, Pitch 0.8mm, IPC Low Density)
pins: 1 RC7/RX/DT (io), 2 RD4 (io), 3 RD5/P1B (io), 4 RD6/P1C (io), 5 RD7/P1D (io), 6 VSS (power), 7 VDD (power), 8 RB0/AN12/INT (io), 9 RB1/AN10/C12IN3- (io), 10 RB2/AN8 (io), 11 RB3/AN9/PGM/C12IN2- (io), 12 NC, 13 NC, 14 RB4/AN11 (io), 15 RB5/AN13/~{T1G} (io), 16 RB6/ICSPCLK (io), 17 RB7/ICSPDAT (io), 18 RE3/~{MCLR}/VPP (io), 19 RA0/AN0/ULPWU/C12IN0- (io), 20 RA1/AN1/C12IN1- (io), 21 RA2/AN2/VREF-/CVREF/C2IN+ (io), 22 RA3/AN3//VREF+/C1IN+ (io), 23 RA4/T0CKI/C1OUT (io), 24 RA5/AN4/~{SS}/C2OUT (io), 25 RE0/AN5 (io), 26 RE1/AN6 (io), 27 RE2/AN7 (io), 28 VDD (power), 29 VSS (power), 30 RA7/OSC1/CLKIN (io), 31 RA6/OSC2/CLKOUT (io), 32 RC0/T1OSO/T1CKI (io), 33 NC, 34 NC, 35 RC1/T1OSCI/CCP2 (io), 36 RC2/P1A/CCP1 (io), 37 RC3/SCK/SCL (io), 38 RD0 (io), 39 RD1 (io), 40 RD2 (io), 41 RD3 (io), 42 RC4/SDI/SDA (io), 43 RC5/SDO (io), 44 RC6/TX/CK (io)

## PIC18F4520T-I/PT
designator U??
Enhanced Flash Microcontroller with 10-Bit A/D and nanoWatt Technology, 32K Flash, 44-Pin TQFP, Industrial Temperature Range, Tape and Reel; Published: 29-Jan-2009; DatasheetVersion: revD, Jul-2007; PackageVersion: revAW, Oct-2008; PackageReference: TQFP-PT44; Publisher: Altium Limited; PackageDescription: 44-Lead Plastic Thin Quad Flatpack (PT) - 10x10x1mm Body, 2.00mm [TQFP]; Code_JEDEC: MS-026; ComponentLink1Description: Manufacturer Link; ComponentLink1URL: http://www.microchip.com; ComponentLink2Description: Datasheet; ComponentLink2URL: http://ww1.microchip.com/downloads/en/DeviceDoc/39631D.pdf; ComponentLink3Description: Packaging Specification; ComponentLink3URL: http://ww1.microchip.com/downloads/en/PackagingSpec/00049AW.pdf
footprint TQFP-PT44_M (Thin QFP, 44-Leads, Body 10x10mm, Pitch 0.8mm, IPC Low Density)
pins: 1 RC7/RX/DT (io), 2 RD4/PSP4 (io), 3 RD5/PSP5/P1B (io), 4 RD6/PSP6/P1C (io), 5 RD7/PSP7/P1D (io), 6 VSS (power), 7 VDD (power), 8 RB0/INT0/FLT0/AN12 (io), 9 RB1/INT1/AN10 (io), 10 RB2/INT2/AN8 (io), 11 RB3/AN9/CCP2 (io), 12 NC, 13 NC, 14 RB4/KBI0/AN11 (io), 15 RB5/KBI1/PGM (io), 16 RB6/KBI2/PGC (io), 17 RB7/KBI3/PGD (io), 18 ~{MCLR}/VPP/RE3 (in), 19 RA0/AN0 (io), 20 RA1/AN1 (io), 21 RA2/AN2/VREF-/CVREF (io), 22 RA3/AN3/VREF+ (io), 23 RA4/T0CKI/C1OUT (io), 24 RA5/AN4/~{SS}/HLVDIN/C2OUT (io), 25 RE0/~{RD}/AN5 (io), 26 RE1/~{WR}/AN6 (io), 27 RE2/~{CS}/AN7 (io), 28 VDD (power), 29 VSS (power), 30 OSC1/CLKI/RA7 (io), 31 OSC2/CLKO/RA6 (io), 32 RC0/T1OSO/T13CKI (io), 33 NC, 34 NC, 35 RC1/T1OSI/CCP2 (io), 36 RC2/CCP1/P1A (io), 37 RC3/SCK/SCL (io), 38 RD0/PSP0 (io), 39 RD1/PSP1 (io), 40 RD2/PSP2 (io), 41 RD3/PSP3 (io), 42 RC4/SDI/SDA (io), 43 RC5/SDO (io), 44 RC6/TX/CK (io)

## PIC18F4550-I/PT
designator U??
High Performance, Enhanced Flash, USB Microcontroller with nanoWatt Technology, 32K Flash, 44-Pin TQFP, Industrial Temperature Range; Published: 29-Jan-2009; DatasheetVersion: revD, Jan-2007; PackageVersion: revAW, Oct-2008; PackageReference: TQFP-PT44; Publisher: Altium Limited; PackageDescription: 44-Lead Plastic Thin Quad Flatpack (PT) - 10x10x1mm Body, 2.00mm [TQFP]; Code_JEDEC: MS-026; ComponentLink1Description: Manufacturer Link; ComponentLink1URL: http://www.microchip.com; ComponentLink2Description: Datasheet; ComponentLink2URL: http://ww1.microchip.com/downloads/en/DeviceDoc/39632D.pdf; ComponentLink3Description: Packaging Specification; ComponentLink3URL: http://ww1.microchip.com/downloads/en/PackagingSpec/00049AW.pdf
footprint TQFP-PT44_M (Thin QFP, 44-Leads, Body 10x10mm, Pitch 0.8mm, IPC Low Density)
pins: 1 RC7/RX/DT/SDO (io), 2 RD4/SPP4 (io), 3 RD5/SPP5/P1B (io), 4 RD6/SPP6/P1C (io), 5 RD7/SPP7/P1D (io), 6 VSS (power), 7 VDD (power), 8 RB0/AN12/INT0/FLT0/SDI/SDA (io), 9 RB1/AN10/INT1/SCK/SCL (io), 10 RB2/AN8/INT2/VMO (io), 11 RB3/AN9/CCP2/VPO (io), 12 NC/ICCK/ICPGC, 13 NC/ICDT/ICPGD, 14 RB4/AN11/KBI0/CSSPP (io), 15 RB5/KBI1/PGM (io), 16 RB6/KBI2/PGC (io), 17 RB7/KBI3/PGD (io), 18 ~{MCLR}/VPP/RE3 (in), 19 RA0/AN0 (io), 20 RA1/AN1 (io), 21 RA2/AN2/VREF-/CVREF (io), 22 RA3/AN3/VREF+ (io), 23 RA4/T0CKI/C1OUT/RCV (io), 24 RA5/AN4/~{SS}/HLVDIN/C2OUT (io), 25 RE0/AN5/CK1SPP (io), 26 RE1/AN6/CK2SPP (io), 27 RE2/AN7/OESPP (io), 28 VDD (power), 29 VSS (power), 30 OSC1/CLKI (in), 31 OSC2/CLKO/RA6 (io), 32 RC0/T1OSO/T13CKI (io), 33 NC/~{ICRST}/ICVPP, 34 NC/ICPORTS, 35 RC1/T1OSI/CCP2/~{UOE} (io), 36 RC2/CCP1/P1A (io), 37 VUSB (out), 38 RD0/SPP0 (io), 39 RD1/SPP1 (io), 40 RD2/SPP2 (io), 41 RD3/SPP3 (io), 42 RC4/D-/VM (io), 43 RC5/D+/VP (io), 44 RC6/TX/CK (io)

## PIC18F6722T-I/PT
designator U?
1-Mbit, Enhanced Flash Microcontroller with 10-Bit A/D and nanoWatt Technology, 128K Flash, 64-Pin TQFP, Industrial Temperature Range, Tape and Reel; Published: 29-Jan-2009; DatasheetVersion: revC, Oct-2008; PackageVersion: revAW, Oct-2008; PackageReference: TQFP-PT64; Publisher: Altium Limited; PackageDescription: 64-Lead Thin Plastic Quad Flat Pack (PT) - 10x10x1mm Body, 2.00mm [TQFP]; Code_JEDEC: MS-026; ComponentLink1Description: Manufacturer Link; ComponentLink1URL: http://www.microchip.com; ComponentLink2Description: Datasheet; ComponentLink2URL: http://ww1.microchip.com/downloads/en/DeviceDoc/39646c.pdf; ComponentLink3Description: Packaging Specification; ComponentLink3URL: http://ww1.microchip.com/downloads/en/PackagingSpec/00049AW.pdf
footprint TQFP-PT64_M (Thin QFP, 64-Leads, Body 10x10mm, Pitch 0.5mm, IPC Low Density)
pins: 1 RE1/~{WR}/P2C (io), 2 RE0/~{RD}/P2D (io), 3 RG0/ECCP3/P3A (io), 4 RG1/TX2/CK2 (io), 5 RG2/RX2/DT2 (io), 6 RG3/CCP4/P3D (io), 7 RG5/~{MCLR}/VPP (in), 8 RG4/CCP5/P1D (io), 9 VSS (power), 10 VDD (power), 11 RF7/~{SS1} (io), 12 RF6/AN11 (io), 13 RF5/AN10/CVREF (io), 14 RF4/AN9 (io), 15 RF3/AN8 (io), 16 RF2/AN7/C1OUT (io), 17 RF1/AN6/C2OUT (io), 18 RF0/AN5 (io), 19 AVDD (power), 20 AVSS (power), 21 RA3/AN3/VREF+ (io), 22 RA2/AN2/VREF- (io), 23 RA1/AN1 (io), 24 RA0/AN0 (io), 25 VSS (power), 26 VDD (power), 27 RA5/AN4/HLVDIN (io), 28 RA4/T0CKI (io), 29 RC1/T1OSI/ECCP2/P2A (io), 30 RC0/T1OSO/T13CKI (io), 31 RC6/TX1/CK1 (io), 32 RC7/RX1/DT1 (io), 33 RC2/ECCP1/P1A (io), 34 RC3/SCK1/SCL1 (io), 35 RC4/SDI1/SDA1 (io), 36 RC5/SDO1 (io), 37 RB7/KBI3/PGD (io), 38 VDD (power), 39 OSC1/CLKI/RA7 (io), 40 OSC2/CLKO/RA6 (io), 41 VSS (power), 42 RB6/KBI2/PGC (io), 43 RB5/KBI1/PGM (io), 44 RB4/KBI0 (io), 45 RB3/INT3 (io), 46 RB2/INT2 (io), 47 RB1/INT1 (io), 48 RB0/INT0 (io), 49 RD7/PSP7/~{SS2} (io), 50 RD6/PSP6/SCK2/SCL2 (io), 51 RD5/PSP5/SDI2/SDA2 (io), 52 RD4/PSP4/SDO2 (io), 53 RD3/PSP3 (io), 54 RD2/PSP2 (io), 55 RD1/PSP1 (io), 56 VSS (power), 57 VDD (power), 58 RD0/PSP0 (io), 59 RE7/ECCP2/P2A (io), 60 RE6/P1B (io), 61 RE5/P1C (io), 62 RE4/P3B (io), 63 RE3/P3C (io), 64 RE2/~{CS}/P2B (io)

## PIC18LF6722-I/PT
designator U??
1-Mbit, Enhanced Flash Microcontroller with 10-Bit A/D and nanoWatt Technology, 128K Flash, 64-Pin TQFP, Industrial Temperature Range; Published: 29-Jan-2009; DatasheetVersion: revC, Oct-2008; PackageVersion: revAW, Oct-2008; PackageReference: TQFP-PT64; Publisher: Altium Limited; PackageDescription: 64-Lead Thin Plastic Quad Flat Pack (PT) - 10x10x1mm Body, 2.00mm [TQFP]; Code_JEDEC: MS-026; ComponentLink1Description: Manufacturer Link; ComponentLink1URL: http://www.microchip.com; ComponentLink2Description: Datasheet; ComponentLink2URL: http://ww1.microchip.com/downloads/en/DeviceDoc/39646c.pdf; ComponentLink3Description: Packaging Specification; ComponentLink3URL: http://ww1.microchip.com/downloads/en/PackagingSpec/00049AW.pdf
footprint TQFP-PT64_M (Thin QFP, 64-Leads, Body 10x10mm, Pitch 0.5mm, IPC Low Density)
pins: 1 RE1/~{WR}/P2C (io), 2 RE0/~{RD}/P2D (io), 3 RG0/ECCP3/P3A (io), 4 RG1/TX2/CK2 (io), 5 RG2/RX2/DT2 (io), 6 RG3/CCP4/P3D (io), 7 RG5/~{MCLR}/VPP (in), 8 RG4/CCP5/P1D (io), 9 VSS (power), 10 VDD (power), 11 RF7/~{SS1} (io), 12 RF6/AN11 (io), 13 RF5/AN10/CVREF (io), 14 RF4/AN9 (io), 15 RF3/AN8 (io), 16 RF2/AN7/C1OUT (io), 17 RF1/AN6/C2OUT (io), 18 RF0/AN5 (io), 19 AVDD (power), 20 AVSS (power), 21 RA3/AN3/VREF+ (io), 22 RA2/AN2/VREF- (io), 23 RA1/AN1 (io), 24 RA0/AN0 (io), 25 VSS (power), 26 VDD (power), 27 RA5/AN4/HLVDIN (io), 28 RA4/T0CKI (io), 29 RC1/T1OSI/ECCP2/P2A (io), 30 RC0/T1OSO/T13CKI (io), 31 RC6/TX1/CK1 (io), 32 RC7/RX1/DT1 (io), 33 RC2/ECCP1/P1A (io), 34 RC3/SCK1/SCL1 (io), 35 RC4/SDI1/SDA1 (io), 36 RC5/SDO1 (io), 37 RB7/KBI3/PGD (io), 38 VDD (power), 39 OSC1/CLKI/RA7 (io), 40 OSC2/CLKO/RA6 (io), 41 VSS (power), 42 RB6/KBI2/PGC (io), 43 RB5/KBI1/PGM (io), 44 RB4/KBI0 (io), 45 RB3/INT3 (io), 46 RB2/INT2 (io), 47 RB1/INT1 (io), 48 RB0/INT0 (io), 49 RD7/PSP7/~{SS2} (io), 50 RD6/PSP6/SCK2/SCL2 (io), 51 RD5/PSP5/SDI2/SDA2 (io), 52 RD4/PSP4/SDO2 (io), 53 RD3/PSP3 (io), 54 RD2/PSP2 (io), 55 RD1/PSP1 (io), 56 VSS (power), 57 VDD (power), 58 RD0/PSP0 (io), 59 RE7/ECCP2/P2A (io), 60 RE6/P1B (io), 61 RE5/P1C (io), 62 RE4/P3B (io), 63 RE3/P3C (io), 64 RE2/~{CS}/P2B (io)

## POTENCIOMETER
designator VR??, comment Trimmer Cermet 104
footprint POT1
footprint POT ACOSTADO (potenciometro)
pins: 1, 2, 3

## PS-2206-L NS
designator SW?
PS-2206-L NS: PS-2206-L NS
footprint PS-2206-L NS
pins: 1, 2, 3, 4, 5, 6

## QRE1113
designator S?
footprint QRD1114 (QRD1114 reflective sensors, phototransistor responds  to radiation emitted from the diode only when a reflective  object or surface is)
footprint QRE113 (Minature Reflective Object Sensor)
pins: 1 C "Collector", 2 E "Emitter", 3 A "Anode", 4 K "Cathode"

## Raspberry PI 3-B
designator U??, comment Raspberry Pi3 B
GPIO Header for Raspberry Pi A+/B+/Pi 2/Pi 3 - 2x20; Manufacturer: SparkFun Electronics; Manufacturer Part Number: PRT-14017; Nils Minor: author; nilsminor@web.de: mail; Accessory Type: Connector; RoHS: RoHS Compliant; Category: Development Boards, Kits, Programmers; Stock 1: 150; Pricing 1: 1=1.84 (EUR); Part Status: Active; For Use With/Related Products: Raspberry Pi; ComponentLink1URL: https://cdn.sparkfun.com/datasheets/Dev/RaspberryPi/12313.pdf; ComponentLink1Description: https://cdn.sparkfun.com/datasheets/Dev/RaspberryPi/12313.pdf; Supplier 1: Digi-Key; Supplier Part Number 1: 1568-1462-ND
footprint Raspberry Pi 3B
pins: 1 +3V3 (power), 2 +5V (power), 3 GPIO2 (I2C SDA) (io), 4 +5V (power), 5 GPIO3 (I2C SCL) (io), 6 GND (power), 7 GPIO4 (io), 8 UART0 TX (io), 9 GND (power), 10 UART0 RX (io), 11 GPIO17 (io), 12 GPIO18 (io), 13 GPIO27 (io), 14 GND (power), 15 GPIO22 (io), 16 GPIO23 (io), 17 +3V3 (power), 18 GPIO24 (io), 19 GPIO10 (SPI0 MOSI) (io), 20 GND (power), 21 GPIO9 (SPI0 MISO) (io), 22 GPIO25 (io), 23 GPIO11 (SPI0 SCLK) (io), 24 GPIO8 (SPI0 CS0) (io), 25 GND (power), 26 GPIO7 (SPI0 CS1) (io), 27 RSVD, 28 RSVD, 29 GPIO5 (io), 30 GND (power), 31 GPIO6 (io), 32 GPIO12 (io), 33 GPIO13 (io), 34 GND, 35 GPIO19 (SPI1 MISO) (io), 36 GPIO16 (SPI1 CS0) (io), 37 GPIO26 (io), 38 GPIO20 (SPI1 MOSI) (io), 39 GND (power), 40 GPIO21 (SPI1 SCLK) (io)

## Relay-SPST
designator K??
Single-Pole Single-Throw Relay; Published: 24-Mar-1999; LatestRevisionDate: 17-Jul-2002; LatestRevisionNote: Re-released for DXP Platform.; PackageReference: MODULE4; Publisher: Altium Limited
footprint Relay 60A (relay 60A de Vehiculo)
pins: 1, 2, 3, 4

## Resistor
designator R??, comment 1K  Package: 1206
Resistor; Published: 8-Jun-2000; LatestRevisionDate: 17-Jul-2002; LatestRevisionNote: Re-released for DXP Platform.; PackageReference: AXIAL-0.3; Publisher: Altium Limited; PackageDescription: Axial Device, Thru-Hole; 2 Leads; 0.3 in Pin Spacing; Value: 1K
simulation model RESISTOR (Resistor)
signal-integrity model Res
footprint RES 1206 (1206, 3.2mm x 1.6mm x 0.55mm, Lead (Pb)-Bearing Thick Film, Rectangular Chip Resistors)
footprint RES-0805 (Chip Resistor, 2-Leads, Body 2,00x1,25mm, IPC Medium Density)
pins: 1, 2

## RJ11X2
designator P??
0438146621; Manufacturer: Molex, LLC; Connector Type: Jack; Number of Positions/Contacts: 6p6c (RJ11, RJ12, RJ14, RJ25); Number of Ports: 2; Shielding: Unshielded; Ratings: Cat3; LED Color: Does Not Contain LED; Tab Direction: Up; Supplier 1: Digi-Key; Supplier Part Number 1: WM4232-ND; Manufacturer Part Number: 0438146621; RoHS: RoHS Compliant; Category: Connectors, Interconnects; Stock 1: 5129; Pricing 1: 1=1.36, 10=1.234, 50=1.1084, 100=1.058, 250=0.95724, 500=0.88166, 1000=0.7557, 2500=0.70532, 5000=0.67005 (USD); Packaging: Tube; Number of Rows: 1; Mounting Type: Through Hole; Orientation: 90° Angle (Right); Termination: Solder; Features: Board Lock; Ingress Protection: -; Contact Material: Phosphor Bronze; Contact Finish: Gold; Contact Finish Thickness: 50µin (1.27µm); Housing Material: Polyamide (PA), Nylon, Glass Filled; Operating Temperature: -40°C ~ 85°C; ComponentLink1URL: http://www.molex.com/pdm_docs/sd/438146621_sd.pdf; ComponentLink1Description: http://www.molex.com/pdm_docs/sd/438146621_sd.pdf
footprint Dual RJ11 (CONN MOD JACK 6P6C R/A UNSHLD)
pins: 1A, 1B, 2A, 2B, 3A, 3B, 4A, 4B
text: RJ11

## RXM-XXX-LR
designator U??, comment RXM-433-LR
RECEIVER 433MHZ LR SERIES; Manufacturer: Linx Technologies Inc.; Sensitivity: -112dBm; Data Rate (Max): 10 kbps; Modulation or Protocol: ASK, OOK; Current - Receiving: 5mA; Data Interface: PCB, Surface Mount; Voltage - Supply: 2.7 V ~ 3.6 V; OC_NEWARK: unknown; OC_FARNELL: unknown; Supplier 1: Digi-Key; Supplier Part Number 1: RXM-433-LR-ND; Manufacturer Part Number: RXM-433-LR; RoHS: RoHS Compliant; Category: RF/IF and RFID; Stock 1: 4071; Pricing 1: 1=14.3, 25=13.08, 100=10.13 (USD); Packaging: Tube; Frequency: 433MHz; Applications: ISM, Garage Door Openers, RKE; Memory Size: -; Antenna Connector: PCB, Surface Mount; Features: Long Range; Operating Temperature: -40°C ~ 70°C; Package / Case: 16-SMD Module; Supplier Device Package: -; ComponentLink1URL: http://www.linxtechnologies.com/resources/data-guides/rxm-xxx-lr.pdf; ComponentLink1Description: http://www.linxtechnologies.com/resources/data-guides/rxm-xxx-lr.pdf
footprint RXM-XXX-LR
pins: 4 GND (power), 5 VCC (power), 6 PDN, 7 RSSI, 8 DATA (out), 15 GND (power), 16 ANT

## Sensor de Humedad DHT11
designator U?
Sensor de Humedad
footprint Sensor DHT11 (sensor de humeada y temperarura)
pins: 1 VCC (power), 2 DATA, 3 NONE, 4 GND (power)

## Sensor_dist sharp
designator U?, comment Sen_dist sharp
Header, 3-Pin, Dual row; LatestRevisionDate: 17-Jul-2002; LatestRevisionNote: Re-released for DXP Platform.; Publisher: Altium Limited
footprint Sensor de distancia IR (sensor de distancia)
pins: 1 SEÑAL, 2 GND, 3 VCC
text: SHARP

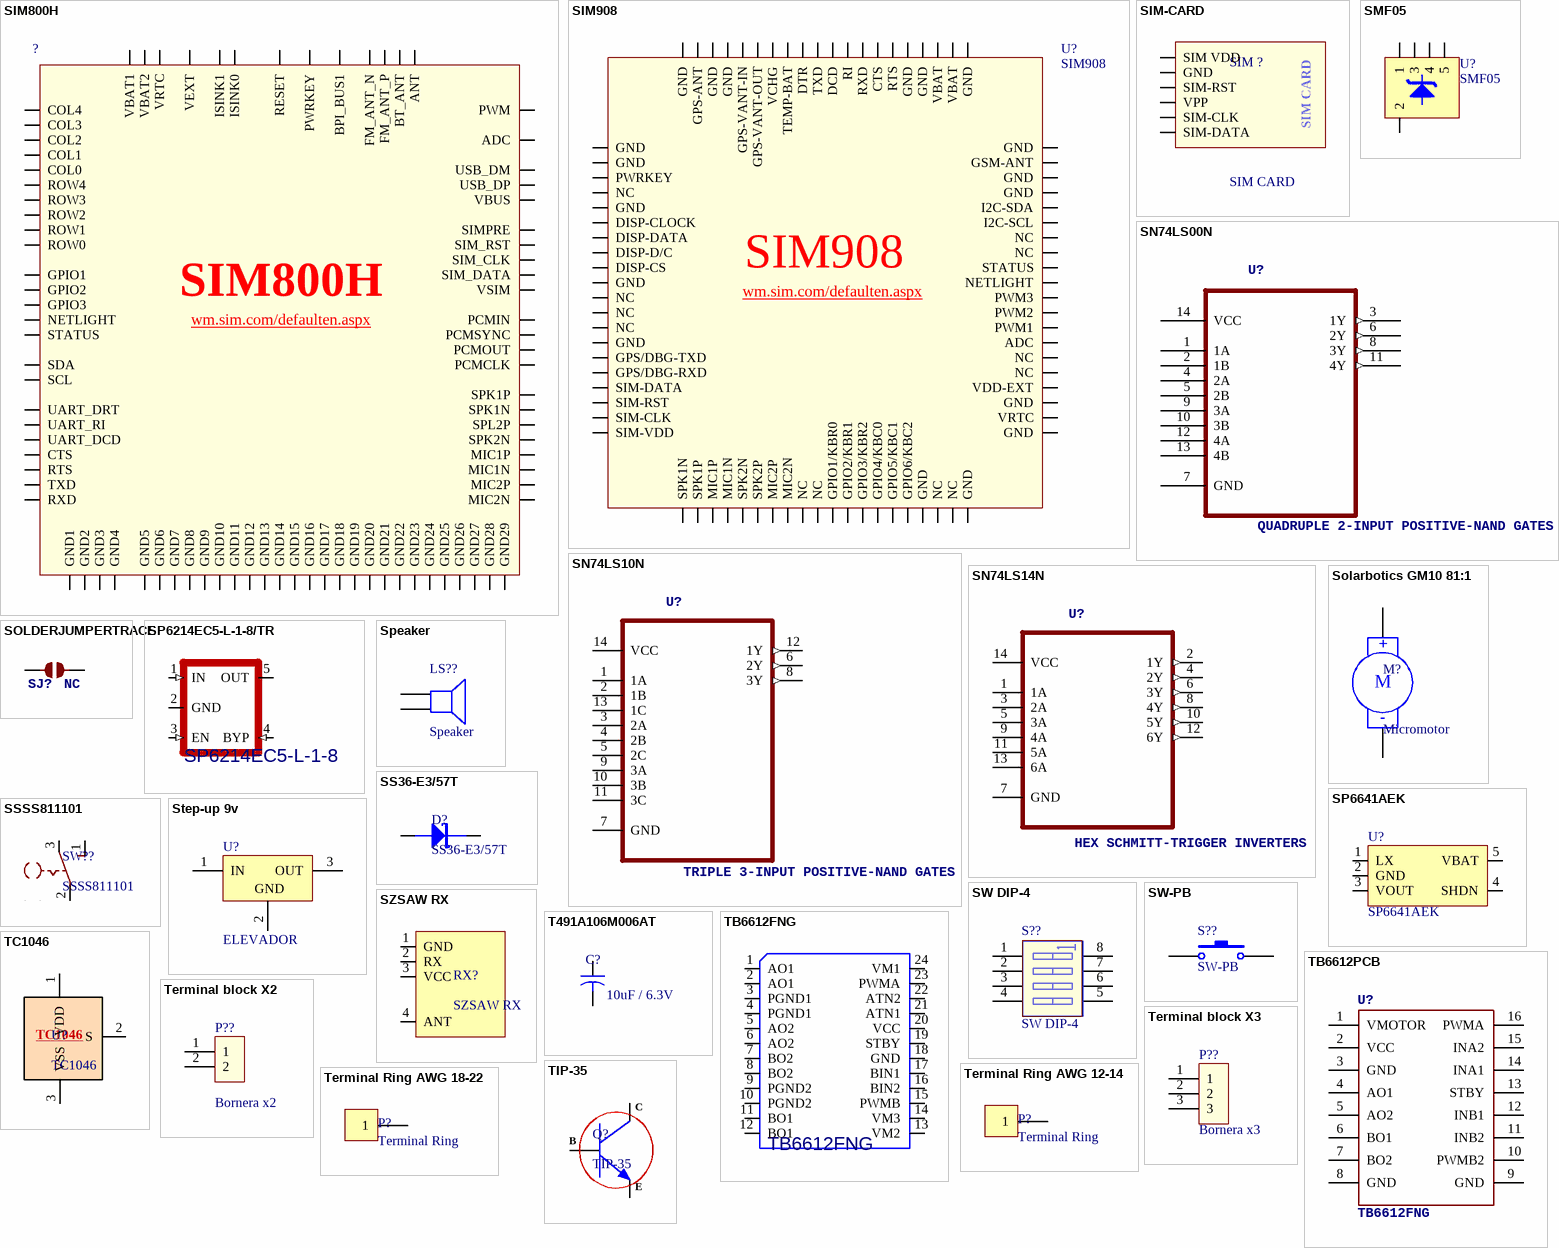
[diagram p6: symbols SIM800H to TIP-35]

## SIM800H
designator ?
footprint SIM800H (Module GSM/GPRS quad-band 88pns LGA)
pins: 1 VBAT1, 2 GND1, 3 GPIO1, 4 STATUS, 5 BPI_BUS1, 6 GND10, 7 VBUS, 8 GND11, 9 MIC2P, 10 MIC2N, 11 SPK2N, 12 MIC1N, 13 SPK1N, 14 SIM_DATA, 15 SIM_RST, 16 VSIM, 17 FM_ANT_P, 18 VEXT, 19 USB_DM, 20 COL0, 21 COL3, 22 COL2, 23 ROW3, 24 COL4, 25 COL1, 26 PWM, 27 GPIO2, 28 GPIO3, 29 PCMCLK, 30 PCMOUT, 31 RXD, 32 TXD, 33 RTS, 34 CTS, 35 GND5, 36 BT_ANT, 37 GND6, 38 GND7, 39 GND8, 40 ANT, 41 GND12, 42 VBAT2, 43 GND2, 44 GND3, 45 GND4, 46 ISINK1, 47 ISINK0, 48 PWRKEY, 49 RESET, 50 ADC, 51 SPL2P, 52 MIC1P, 53 SPK1P, 54 SIMPRE, 55 SIM_CLK, 56 VRTC, 57 FM_ANT_N, 58 GND9, 59 USB_DP, 60 ROW1, 61 ROW2, 62 ROW0, 63 ROW4, 64 NETLIGHT, 65 PCMSYNC, 66 PCMIN, 67 GND13, 68 UART_RI, 69 UART_DRT, 70 UART_DCD, 71 GND14, 72 GND15, 73 GND16, 74 SCL, 75 SDA, 76 GND17, 77 GND18, 78 GND19, 79 GND20, 80 GND21, 81 GND22, 82 GND23, 83 GND24, 84 GND25, 85 GND26, 86 GND27, 87 GND28, 88 GND29
text: wm.sim.com/defaulten.aspx

## SIM908
designator U?
SIM908: SIM908
footprint SIM GSM (SIM GSM 2)
pins: 1 GND, 2 GND, 3 PWRKEY, 4 NC, 5 GND, 6 DISP-CLOCK, 7 DISP-DATA, 8 DISP-D/C, 9 DISP-CS, 10 GND, 11 NC, 12 NC, 13 NC, 14 GND, 15 GPS/DBG-TXD, 16 GPS/DBG-RXD, 17 SIM-DATA, 18 SIM-RST, 19 SIM-CLK, 20 SIM-VDD, 21 SPK1N, 22 SPK1P, 23 MIC1P, 24 MIC1N, 25 SPK2N, 26 SPK2P, 27 MIC2P, 28 MIC2N, 29 NC, 30 NC, 31 GPIO1/KBR0, 32 GPIO2/KBR1, 33 GPIO3/KBR2, 34 GPIO4/KBC0, 35 GPIO5/KBC1, 36 GPIO6/KBC2, 37 GND, 38 NC, 39 NC, 40 GND, 41 GND, 42 VRTC, 43 GND, 44 VDD-EXT, 45 NC, 46 NC, 47 ADC, 48 PWM1, 49 PWM2, 50 PWM3, 51 NETLIGHT, 52 STATUS, 53 NC, 54 NC, 55 I2C-SCL, 56 I2C-SDA, 57 GND, 58 GND, 59 GSM-ANT, 60 GND, 61 GND, 62 VBAT, 63 VBAT, 64 GND, 65 GND, 66 RTS, 67 CTS, 68 RXD, 69 RI, 70 DCD, 71 TXD, 72 DTR, 73 TEMP-BAT, 74 VCHG, 75 GPS-VANT-OUT, 76 GPS-VANT-IN, 77 GND, 78 GND, 79 GPS-ANT, 80 GND
text: wm.sim.com/defaulten.aspx

## SIM-CARD
designator SIM ?, comment SIM CARD
SIM CARD: SIM CARD
footprint SIM CAR READER (SIM CAR READER 101)
footprint Micro Sim Card Holder A
footprint SIM 78800-0001 (micro-SIM Card Socket without Detect Switch, Surface  Mount, 6 Circuits, Halogen-Free, Lead-Free)
pins: 1 SIM VDD, 2 SIM-RST, 3 SIM-CLK, 5 GND, 6 VPP, 7 SIM-DATA

## SMF05
designator U?
TVS DIODE 5VWM 12.5VC SC70-6
footprint SC70-5L (SOT-23/SC-74A; 5 Leads; Body 3.1 x 3.1 mm, inc. leads (LxW max))
pins: 1, 2, 3, 4, 5

## SN74LS00N
designator U?, comment QUADRUPLE 2-INPUT POSITIVE-NAND GATES
MP: SN74LS00N; MF: Texas Instruments; Price: None; Package: PDIP-14 Signetics; Availability: Unavailable
footprint DIP-14C
pins: 1 1A, 2 1B, 3 1Y (out), 4 2A, 5 2B, 6 2Y (out), 7 GND, 8 3Y (out), 9 3A, 10 3B, 11 4Y (out), 12 4A, 13 4B, 14 VCC

## SN74LS10N
designator U?, comment TRIPLE 3-INPUT POSITIVE-NAND GATES
MP: SN74LS10N; MF: Texas Instruments; Price: None; Availability: Unavailable; Package: PDIP-14 Texas Instruments
footprint DIP-14C
pins: 1 1A, 2 1B, 3 2A, 4 2B, 5 2C, 6 2Y (out), 7 GND, 8 3Y (out), 9 3A, 10 3B, 11 3C, 12 1Y (out), 13 1C, 14 VCC (power)

## SN74LS14N
designator U?, comment HEX SCHMITT-TRIGGER INVERTERS
MF: Texas Instruments; MP: SN74LS14N; Package: DIP-14 Texas Instruments; Price: None; Availability: Unavailable
footprint SOIC-14N
footprint DIP-14C
pins: 1 1A, 2 1Y (out), 3 2A, 4 2Y (out), 5 3A, 6 3Y (out), 7 GND, 8 4Y (out), 9 4A, 10 5Y (out), 11 5A, 12 6Y (out), 13 6A, 14 VCC (power)

## Solarbotics GM10 81:1
designator M?, comment Micromotor
Header, 2-Pin; LatestRevisionDate: 17-Jul-2002; LatestRevisionNote: Re-released for DXP Platform.; Publisher: Altium Limited
footprint Solarbotics GM10 81:1 (mini motor de pololu)
pins: 1 +, 2 -
text: M

## SOLDERJUMPERTRACE
designator SJ?, comment NC
Solder JumperStandard SMD solder jumper. Used to automate production. Two varients : Normally Open and Normally Closed are the same, but have different paste layers. NC will have a large amount of paste and should jumper during reflow.
footprint Jumper Soldable
pins: 1, 2

## SP6214EC5-L-1-8/TR
designator U?, comment SP6214EC5-L-1-8
MP: SP6214EC5-L-1-8/TR; Package: None; Price: None; Availability: Unavailable; Value: *
footprint SC70-5L (SOT-23/SC-74A; 5 Leads; Body 3.1 x 3.1 mm, inc. leads (LxW max))
pins: 1 IN (in), 2 GND, 3 EN (in), 4 BYP (in), 5 OUT

## SP6641AEK
designator U?
footprint SOT-23-5
pins: 1 LX, 2 GND, 3 VOUT, 4 SHDN, 5 VBAT

## Speaker
designator LS??
Loudspeaker; Published: 24-Mar-1999; LatestRevisionDate: 17-Jul-2002; LatestRevisionNote: Re-released for DXP Platform.; PackageReference: PIN2; Publisher: Altium Limited
footprint SPEAKER (Connector Speaker)
pins: 1, 2

## SS36-E3/57T
designator D?
footprint DO-214AB (Molded Diode, 2-Leads, Body 6,85x5,90mm, IPC Medium Density)
pins: 1 K "Cathode", 2 A "Anode"